# Altium schematic symbol library kmilo17pet-TI_MSP430.SchLib: 1463 symbols (part 6 of 130)
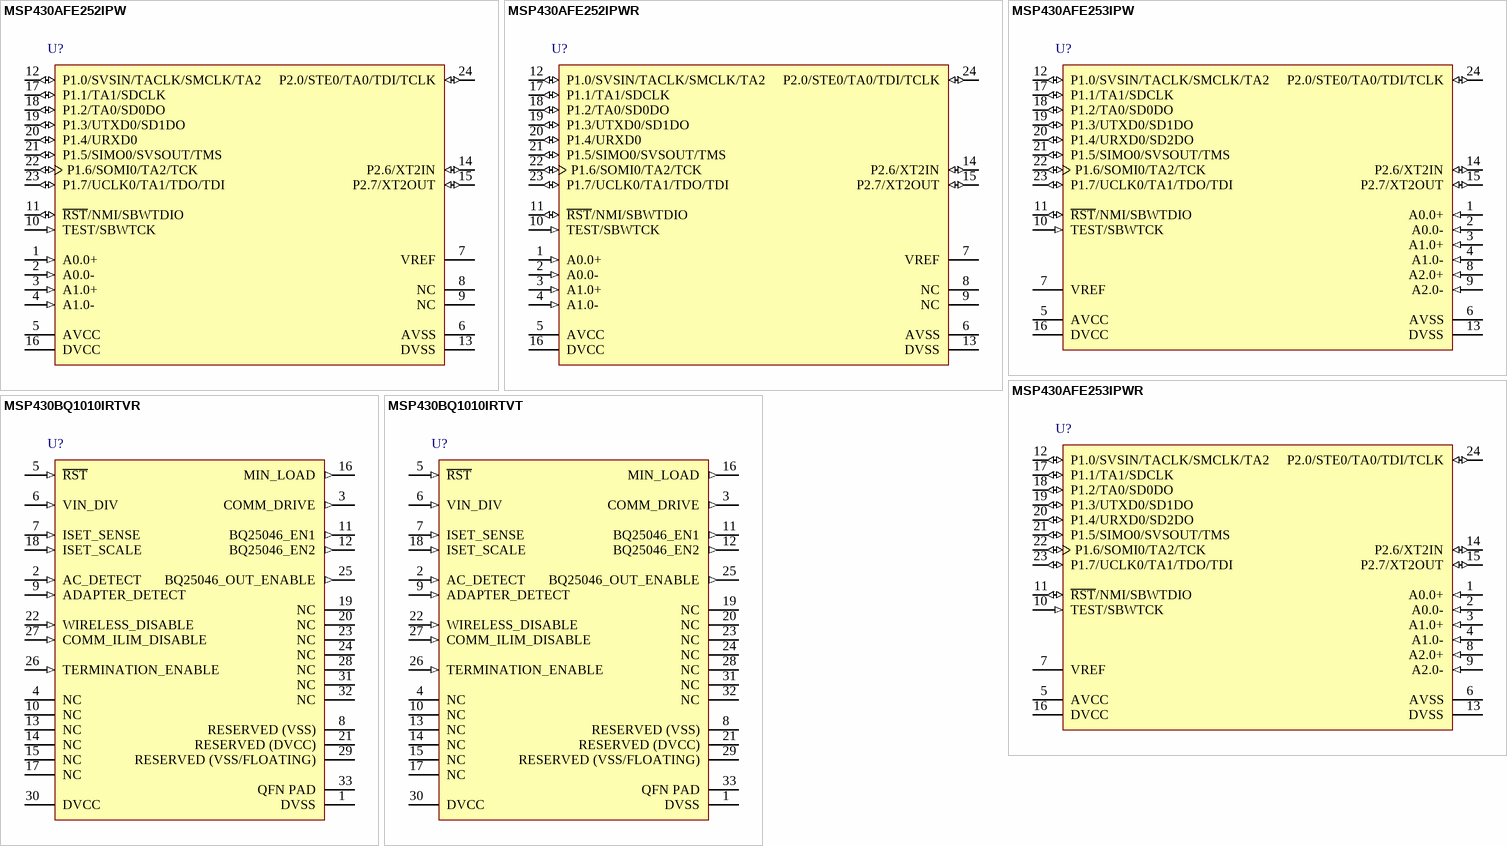
[diagram p339: symbols MSP430AFE252IPW to MSP430BQ1010IRTVT]

## MSP430AFE252IPW
designator U?
12 MHz Mixed Signal Microcontroller with 16 KB Flash, 512 B SRAM and 11 GPIOs, 24-pin SOP (PW), Green (RoHS & no Sb/Br); Manufacturer: Texas Instruments; PartNumber: MSP430AFE252IPW; ADC: 24-bit Sigma Delta; ADC Channels: 2; Brown Out Reset: Yes; Flash(KB): 16; Frequency(MHz): 12; GPIO: 11; Multiplier: 16x16; SRAM(B): 512; SubFamily: 2 Series; Timers - 16-bit: 1; DatasheetVersion: SLAS701A; PackageVersion: 4040064-6/G; PackageReference: PW24; PackageDescription: 24-Pin Plastic Small Outline, Body 7.8 x 4.4 mm, Pitch 0.65 mm; Supplier 1: Digi-Key; Supplier Part Number 1: MSP430AFE252IPW-ND; Supplier 2: Newark; Supplier Part Number 2: 40T4867; Supplier 3: Mouser; Supplier Part Number 3: 595-MSP430AFE252IPW; Eco-Plan: Green (RoHS & no Sb/Br); SVS: Yes; Temp Sensor: Yes; USART: 1; Watchdog: Yes; Mounting Technology: Surface Mount; Code_JEDEC: MO-153; ComponentLink1Description: Manufacturer URL; ComponentLink1URL: http://www.ti.com/; ComponentLink2Description: Datasheet; ComponentLink2URL: http://www.ti.com/general/docs/lit/getliterature.tsp?genericPartNumber=MSP430AFE252&fileType=pdf; ComponentLink3Description: Package Specification; ComponentLink3URL: http://www.ti.com/litv/pdf/mpds363
footprint TI-PW24_N (SOP, 24-Leads, Body 7.8x4.4mm, Pitch 0.65mm, IPC Medium Density)
pins: 1 A0.0+ (in) "SD24_A positive analog input A0.0", 2 A0.0- (in) "SD24_A negative analog input A0.0", 3 A1.0+ (in) "SD24_A positive analog input A1.0", 4 A1.0- (in) "SD24_A negative analog input A1.0", 5 AVCC (power) "Analog supply voltage, positive terminal. Must not power up prior to DVCC", 6 AVSS (power) "Analog supply voltage, negative terminal", 7 VREF "Input for an external reference voltage/ output for internal reference voltage (can be used as mid-voltage)", 8 NC, 9 NC, 10 TEST/SBWTCK (in), 11 ~{RST}/NMI/SBWTDIO (io), 12 P1.0/SVSIN/TACLK/SMCLK/TA2 (io), 13 DVSS (power) "Digital supply voltage, negative terminal", 14 P2.6/XT2IN (io), 15 P2.7/XT2OUT (io), 16 DVCC (power) "Digital supply voltage, positive terminal.", 17 P1.1/TA1/SDCLK (io), 18 P1.2/TA0/SD0DO (io), 19 P1.3/UTXD0/SD1DO (io), 20 P1.4/URXD0 (io), 21 P1.5/SIMO0/SVSOUT/TMS (io), 22 P1.6/SOMI0/TA2/TCK (io), 23 P1.7/UCLK0/TA1/TDO/TDI (io), 24 P2.0/STE0/TA0/TDI/TCLK (io)

## MSP430AFE252IPWR
designator U?
12 MHz Mixed Signal Microcontroller with 16 KB Flash, 512 B SRAM and 11 GPIOs, 24-pin SOP (PW), Green (RoHS & no Sb/Br); Manufacturer: Texas Instruments; PartNumber: MSP430AFE252IPWR; ADC: 24-bit Sigma Delta; ADC Channels: 2; Brown Out Reset: Yes; Flash(KB): 16; Frequency(MHz): 12; GPIO: 11; Multiplier: 16x16; SRAM(B): 512; SubFamily: 2 Series; Timers - 16-bit: 1; DatasheetVersion: SLAS701A; PackageVersion: 4040064-6/G; PackageReference: PW24; PackageDescription: 24-Pin Plastic Small Outline, Body 7.8 x 4.4 mm, Pitch 0.65 mm; Supplier 1: Digi-Key; Supplier Part Number 1: MSP430AFE252IPWR-ND; Supplier 2: Mouser; Supplier Part Number 2: 595-MSP430AFE252IPWR; Eco-Plan: Green (RoHS & no Sb/Br); SVS: Yes; Temp Sensor: Yes; USART: 1; Watchdog: Yes; Mounting Technology: Surface Mount; Code_JEDEC: MO-153; ComponentLink1Description: Manufacturer URL; ComponentLink1URL: http://www.ti.com/; ComponentLink2Description: Datasheet; ComponentLink2URL: http://www.ti.com/general/docs/lit/getliterature.tsp?genericPartNumber=MSP430AFE252&fileType=pdf; ComponentLink3Description: Package Specification; ComponentLink3URL: http://www.ti.com/litv/pdf/mpds363
footprint TI-PW24_N (SOP, 24-Leads, Body 7.8x4.4mm, Pitch 0.65mm, IPC Medium Density)
pins: 1 A0.0+ (in) "SD24_A positive analog input A0.0", 2 A0.0- (in) "SD24_A negative analog input A0.0", 3 A1.0+ (in) "SD24_A positive analog input A1.0", 4 A1.0- (in) "SD24_A negative analog input A1.0", 5 AVCC (power) "Analog supply voltage, positive terminal. Must not power up prior to DVCC", 6 AVSS (power) "Analog supply voltage, negative terminal", 7 VREF "Input for an external reference voltage/ output for internal reference voltage (can be used as mid-voltage)", 8 NC, 9 NC, 10 TEST/SBWTCK (in), 11 ~{RST}/NMI/SBWTDIO (io), 12 P1.0/SVSIN/TACLK/SMCLK/TA2 (io), 13 DVSS (power) "Digital supply voltage, negative terminal", 14 P2.6/XT2IN (io), 15 P2.7/XT2OUT (io), 16 DVCC (power) "Digital supply voltage, positive terminal.", 17 P1.1/TA1/SDCLK (io), 18 P1.2/TA0/SD0DO (io), 19 P1.3/UTXD0/SD1DO (io), 20 P1.4/URXD0 (io), 21 P1.5/SIMO0/SVSOUT/TMS (io), 22 P1.6/SOMI0/TA2/TCK (io), 23 P1.7/UCLK0/TA1/TDO/TDI (io), 24 P2.0/STE0/TA0/TDI/TCLK (io)

## MSP430AFE253IPW
designator U?
12 MHz Mixed Signal Microcontroller with 16 KB Flash, 512 B SRAM and 11 GPIOs, 24-pin SOP (PW), Green (RoHS & no Sb/Br); Manufacturer: Texas Instruments; PartNumber: MSP430AFE253IPW; ADC: 24-bit Sigma Delta; ADC Channels: 3; Brown Out Reset: Yes; Flash(KB): 16; Frequency(MHz): 12; GPIO: 11; Multiplier: 16x16; SRAM(B): 512; SubFamily: 2 Series; Timers - 16-bit: 1; DatasheetVersion: SLAS701A; PackageVersion: 4040064-6/G; PackageReference: PW24; PackageDescription: 24-Pin Plastic Small Outline, Body 7.8 x 4.4 mm, Pitch 0.65 mm; Supplier 1: Digi-Key; Supplier Part Number 1: 296-28395-ND; Supplier 2: Farnell; Supplier Part Number 2: 1972313; Supplier 3: Newark; Supplier Part Number 3: 45T9754; Supplier 4: Mouser; Supplier Part Number 4: 595-MSP430AFE253IPW; Eco-Plan: Green (RoHS & no Sb/Br); SVS: Yes; Temp Sensor: Yes; USART: 1; Watchdog: Yes; Mounting Technology: Surface Mount; Code_JEDEC: MO-153; ComponentLink1Description: Manufacturer URL; ComponentLink1URL: http://www.ti.com/; ComponentLink2Description: Datasheet; ComponentLink2URL: http://www.ti.com/general/docs/lit/getliterature.tsp?genericPartNumber=MSP430AFE253&fileType=pdf; ComponentLink3Description: Package Specification; ComponentLink3URL: http://www.ti.com/litv/pdf/mpds363
footprint TI-PW24_N (SOP, 24-Leads, Body 7.8x4.4mm, Pitch 0.65mm, IPC Medium Density)
pins: 1 A0.0+ (in) "SD24_A positive analog input A0.0", 2 A0.0- (in) "SD24_A negative analog input A0.0", 3 A1.0+ (in) "SD24_A positive analog input A1.0 (not available on MSP430AFE2x1)", 4 A1.0- (in) "SD24_A negative analog input A1.0 (not available on MSP430AFE2x1)", 5 AVCC (power) "Analog supply voltage, positive terminal. Must not power up prior to DVCC.", 6 AVSS (power) "Analog supply voltage, negative terminal", 7 VREF "Input for an external reference voltage/ output for internal reference voltage (can be used as mid-voltage)", 8 A2.0+ (in) "SD24_A positive analog input A2.0 (not available on MSP430AFE2x2 and MSP430AFE2x1)", 9 A2.0- (in) "SD24_A negative analog input A2.0 (not available on MSP430AFE2x2 and MSP430AFE2x1)", 10 TEST/SBWTCK (in) "Digital supply voltage, negative terminal", 11 ~{RST}/NMI/SBWTDIO (io), 12 P1.0/SVSIN/TACLK/SMCLK/TA2 (io), 13 DVSS (power) "Digital supply voltage, negative terminal", 14 P2.6/XT2IN (io), 15 P2.7/XT2OUT (io), 16 DVCC (power) "Digital supply voltage, positive terminal.", 17 P1.1/TA1/SDCLK (io), 18 P1.2/TA0/SD0DO (io), 19 P1.3/UTXD0/SD1DO (io), 20 P1.4/URXD0/SD2DO (io), 21 P1.5/SIMO0/SVSOUT/TMS (io), 22 P1.6/SOMI0/TA2/TCK (io), 23 P1.7/UCLK0/TA1/TDO/TDI (io), 24 P2.0/STE0/TA0/TDI/TCLK (io) "Input for an external reference voltage/ output for internal reference voltage (can be used as mid-voltage)"

## MSP430AFE253IPWR
designator U?
12 MHz Mixed Signal Microcontroller with 16 KB Flash, 512 B SRAM and 11 GPIOs, 24-pin SOP (PW), Green (RoHS & no Sb/Br); Manufacturer: Texas Instruments; PartNumber: MSP430AFE253IPWR; ADC: 24-bit Sigma Delta; ADC Channels: 3; Brown Out Reset: Yes; Flash(KB): 16; Frequency(MHz): 12; GPIO: 11; Multiplier: 16x16; SRAM(B): 512; SubFamily: 2 Series; Timers - 16-bit: 1; DatasheetVersion: SLAS701A; PackageVersion: 4040064-6/G; PackageReference: PW24; PackageDescription: 24-Pin Plastic Small Outline, Body 7.8 x 4.4 mm, Pitch 0.65 mm; Supplier 1: Digi-Key; Supplier Part Number 1: MSP430AFE253IPWR-ND; Supplier 2: Mouser; Supplier Part Number 2: 595-MSP430AFE253IPWR; Eco-Plan: Green (RoHS & no Sb/Br); SVS: Yes; Temp Sensor: Yes; USART: 1; Watchdog: Yes; Mounting Technology: Surface Mount; Code_JEDEC: MO-153; ComponentLink1Description: Manufacturer URL; ComponentLink1URL: http://www.ti.com/; ComponentLink2Description: Datasheet; ComponentLink2URL: http://www.ti.com/general/docs/lit/getliterature.tsp?genericPartNumber=MSP430AFE253&fileType=pdf; ComponentLink3Description: Package Specification; ComponentLink3URL: http://www.ti.com/litv/pdf/mpds363
footprint TI-PW24_N (SOP, 24-Leads, Body 7.8x4.4mm, Pitch 0.65mm, IPC Medium Density)
pins: 1 A0.0+ (in) "SD24_A positive analog input A0.0", 2 A0.0- (in) "SD24_A negative analog input A0.0", 3 A1.0+ (in) "SD24_A positive analog input A1.0 (not available on MSP430AFE2x1)", 4 A1.0- (in) "SD24_A negative analog input A1.0 (not available on MSP430AFE2x1)", 5 AVCC (power) "Analog supply voltage, positive terminal. Must not power up prior to DVCC.", 6 AVSS (power) "Analog supply voltage, negative terminal", 7 VREF "Input for an external reference voltage/ output for internal reference voltage (can be used as mid-voltage)", 8 A2.0+ (in) "SD24_A positive analog input A2.0 (not available on MSP430AFE2x2 and MSP430AFE2x1)", 9 A2.0- (in) "SD24_A negative analog input A2.0 (not available on MSP430AFE2x2 and MSP430AFE2x1)", 10 TEST/SBWTCK (in) "Digital supply voltage, negative terminal", 11 ~{RST}/NMI/SBWTDIO (io), 12 P1.0/SVSIN/TACLK/SMCLK/TA2 (io), 13 DVSS (power) "Digital supply voltage, negative terminal", 14 P2.6/XT2IN (io), 15 P2.7/XT2OUT (io), 16 DVCC (power) "Digital supply voltage, positive terminal.", 17 P1.1/TA1/SDCLK (io), 18 P1.2/TA0/SD0DO (io), 19 P1.3/UTXD0/SD1DO (io), 20 P1.4/URXD0/SD2DO (io), 21 P1.5/SIMO0/SVSOUT/TMS (io), 22 P1.6/SOMI0/TA2/TCK (io), 23 P1.7/UCLK0/TA1/TDO/TDI (io), 24 P2.0/STE0/TA0/TDI/TCLK (io) "Input for an external reference voltage/ output for internal reference voltage (can be used as mid-voltage)"

## MSP430BQ1010IRTVR
designator U?
Wireless Receiver-Side Communication and Power Monitoring IC for Wireless Power, 32-pin QFN (RTV), Green (RoHS & no Sb/Br); Manufacturer: Texas Instruments; PartNumber: MSP430BQ1010IRTVR; SubFamily: Fixed Function; DatasheetVersion: SLAS696; PackageReference: RTV32-3450X3450TP; PackageDescription: 32-Pin Plastic Flat Pack, Body 5.00 x 5.00 mm, Pitch 0.50 mm; Supplier 1: Digi-Key; Supplier Part Number 1: 296-28106-2-ND; Supplier 2: Digi-Key; Supplier Part Number 2: 296-28106-1-ND; Supplier 3: Digi-Key; Supplier Part Number 3: 296-28106-6-ND; Supplier 4: Farnell; Supplier Part Number 4: 1972386; Supplier 5: Newark; Supplier Part Number 5: 24T4624; Supplier 6: Mouser; Supplier Part Number 6: 595-SP430BQ1010IRTVR; Eco-Plan: Green (RoHS & no Sb/Br); Mounting Technology: Surface Mount; Code_JEDEC: MO-220; ComponentLink1Description: Manufacturer URL; ComponentLink1URL: http://www.ti.com/; ComponentLink2Description: Datasheet; ComponentLink2URL: http://www.ti.com/general/docs/lit/getliterature.tsp?genericPartNumber=MSP430BQ1010&fileType=pdf; ComponentLink3Description: Package Specification; ComponentLink3URL: http://www.ti.com/litv/pdf/mpqf166b
footprint TI-RTV32-3450X3450TP_N (QFN, 32-Leads, Body 5x5mm, Pitch 0.5mm, Thermal Pad 3.45x3.45mm, IPC Medium Density)
pins: 1 DVSS (power) "Supply voltage (GND connection)", 2 AC_DETECT (in) "Analog input voltage that is used to detect the presence of wireless power transmission. AC_DETECT is the voltage at the AC2 switching node in the EVM schematic [see bq25046EVM-687 User’s Guide (SLVU420)]. If the wireless (See Datasheet)", 3 COMM_DRIVE (out) "Communication control. Communicates with the wireless transmitter by varying the reflected impedance.", 4 NC "Connect to VSS", 5 ~{RST} (in) "Device reset", 6 VIN_DIV (in) "Analog input voltage that represents 6:1 divided rectifier output voltage. See bq25046EVM-687 User’s Guide (SLVU420) for more details on the 6:1 divider.", 7 ISET_SENSE (in) "Analog input voltage for overcurrent detection. When the ISET_SENSE voltage exceeds the overcurrent threshold, the MSP430BQ1010 disables the BQ25046 output and sends an end power transfer packet, message 0x05.", 8 RESERVED (VSS) "Reserved. Connect to VSS.", 9 ADAPTER_DETECT (in) "External adapter voltage measurement. External adapter refers to another host charging the battery. Use a 6:1 divider from the adapter voltage. When the ADAPTER_DETECT voltage exceeds the VADAPTER-DETECT threshold, the (See Datasheet)", 10 NC "Connect to VSS", 11 BQ25046_EN1 (out) "BQ25046 current limit configuration pins. See the EN1 and EN2 Input table in the BQ25046 datasheet (SLUSA83).", 12 BQ25046_EN2 (out) "BQ25046 current limit configuration pins. See the EN1 and EN2 Input table in the BQ25046 datasheet (SLUSA83).", 13 NC "Connect to VSS", 14 NC "Connect to VSS", 15 NC "Connect to VSS", 16 MIN_LOAD (out) "Provides additional load during minimum-load conditions to improve the stability of the wireless control loop. When a minimum-load condition is detected (that is, when the BQ25046 output current is less than (See Datasheet)", 17 NC "Connect to VSS", 18 ISET_SCALE (in) "Analog input voltage that represents BQ25046 output current. Connect a 470-ohm resistor between this pin and ground. This pin can be tied directly to the ISET pin on the BQ25046 to achieve a output current limit of (See Datasheet)", 19 NC "Connect to VSS", 20 NC "Connect to VSS", 21 RESERVED (DVCC) "Reserved. Connect to DVCC.", 22 WIRELESS_DISABLE (in) "Connecting this pin to DVCC disables wireless power transfer. When WIRELESS_DISABLE is pulled to DVCC, the MSP430BQ1010 disables the BQ25046 output and sends an end power transfer packet, message 0x03.", 23 NC "Connect to VSS", 24 NC "Connect to VSS", 25 BQ25046_OUT_ENABLE (out) "Enables the wireless charging path. The wireless charging output is combined by a logical OR with the ADAPTER_DETECT function. During the MSP430BQ1010 power-up routine, this pin is set high to enable the BQ25046 output, only (See Datasheet)", 26 TERMINATION_ENABLE (in) "User configurable pin that enables the power-supply termination feature on the MSP430BQ1010. Pulling this pin high enables the termination detect function on MSP430BQ1010 which sends an end power transfer packet, message (See Datasheet)", 27 COMM_ILIM_DISABLE (in) "User configurable pin that is used to enable/disable BQ25046 current limit modes during communication. With COMM_ILIM_DISABLE connected to DVSS, current limit during communication is enabled, and with COMM_ILIM_DISABLE (See Datasheet)", 28 NC "Connect to VSS", 29 RESERVED (VSS/FLOATING) "Reserved. Can be either connected to VSS or left floating", 30 DVCC (power) "Supply voltage (VCC)", 31 NC "Connect to VSS", 32 NC "Connect to VSS", 33 QFN PAD (power) "Connection to DVSS is recommended."

## MSP430BQ1010IRTVT
designator U?
Wireless Receiver-Side Communication and Power Monitoring IC for Wireless Power, 32-pin QFN (RTV), Green (RoHS & no Sb/Br); Manufacturer: Texas Instruments; PartNumber: MSP430BQ1010IRTVT; SubFamily: Fixed Function; DatasheetVersion: SLAS696; PackageReference: RTV32-3450X3450TP; PackageDescription: 32-Pin Plastic Flat Pack, Body 5.00 x 5.00 mm, Pitch 0.50 mm; Supplier 1: Digi-Key; Supplier Part Number 1: 296-32161-2-ND; Supplier 2: Digi-Key; Supplier Part Number 2: 296-32161-1-ND; Supplier 3: Digi-Key; Supplier Part Number 3: 296-32161-6-ND; Supplier 4: Farnell; Supplier Part Number 4: 1864833; Supplier 5: Newark; Supplier Part Number 5: 13T4429; Supplier 6: Mouser; Supplier Part Number 6: 595-SP430BQ1010IRTVT; Eco-Plan: Green (RoHS & no Sb/Br); Mounting Technology: Surface Mount; Code_JEDEC: MO-220; ComponentLink1Description: Manufacturer URL; ComponentLink1URL: http://www.ti.com/; ComponentLink2Description: Datasheet; ComponentLink2URL: http://www.ti.com/general/docs/lit/getliterature.tsp?genericPartNumber=MSP430BQ1010&fileType=pdf; ComponentLink3Description: Package Specification; ComponentLink3URL: http://www.ti.com/litv/pdf/mpqf166b
footprint TI-RTV32-3450X3450TP_N (QFN, 32-Leads, Body 5x5mm, Pitch 0.5mm, Thermal Pad 3.45x3.45mm, IPC Medium Density)
pins: 1 DVSS (power) "Supply voltage (GND connection)", 2 AC_DETECT (in) "Analog input voltage that is used to detect the presence of wireless power transmission. AC_DETECT is the voltage at the AC2 switching node in the EVM schematic [see bq25046EVM-687 User’s Guide (SLVU420)]. If the wireless (See Datasheet)", 3 COMM_DRIVE (out) "Communication control. Communicates with the wireless transmitter by varying the reflected impedance.", 4 NC "Connect to VSS", 5 ~{RST} (in) "Device reset", 6 VIN_DIV (in) "Analog input voltage that represents 6:1 divided rectifier output voltage. See bq25046EVM-687 User’s Guide (SLVU420) for more details on the 6:1 divider.", 7 ISET_SENSE (in) "Analog input voltage for overcurrent detection. When the ISET_SENSE voltage exceeds the overcurrent threshold, the MSP430BQ1010 disables the BQ25046 output and sends an end power transfer packet, message 0x05.", 8 RESERVED (VSS) "Reserved. Connect to VSS.", 9 ADAPTER_DETECT (in) "External adapter voltage measurement. External adapter refers to another host charging the battery. Use a 6:1 divider from the adapter voltage. When the ADAPTER_DETECT voltage exceeds the VADAPTER-DETECT threshold, the (See Datasheet)", 10 NC "Connect to VSS", 11 BQ25046_EN1 (out) "BQ25046 current limit configuration pins. See the EN1 and EN2 Input table in the BQ25046 datasheet (SLUSA83).", 12 BQ25046_EN2 (out) "BQ25046 current limit configuration pins. See the EN1 and EN2 Input table in the BQ25046 datasheet (SLUSA83).", 13 NC "Connect to VSS", 14 NC "Connect to VSS", 15 NC "Connect to VSS", 16 MIN_LOAD (out) "Provides additional load during minimum-load conditions to improve the stability of the wireless control loop. When a minimum-load condition is detected (that is, when the BQ25046 output current is less than (See Datasheet)", 17 NC "Connect to VSS", 18 ISET_SCALE (in) "Analog input voltage that represents BQ25046 output current. Connect a 470-ohm resistor between this pin and ground. This pin can be tied directly to the ISET pin on the BQ25046 to achieve a output current limit of (See Datasheet)", 19 NC "Connect to VSS", 20 NC "Connect to VSS", 21 RESERVED (DVCC) "Reserved. Connect to DVCC.", 22 WIRELESS_DISABLE (in) "Connecting this pin to DVCC disables wireless power transfer. When WIRELESS_DISABLE is pulled to DVCC, the MSP430BQ1010 disables the BQ25046 output and sends an end power transfer packet, message 0x03.", 23 NC "Connect to VSS", 24 NC "Connect to VSS", 25 BQ25046_OUT_ENABLE (out) "Enables the wireless charging path. The wireless charging output is combined by a logical OR with the ADAPTER_DETECT function. During the MSP430BQ1010 power-up routine, this pin is set high to enable the BQ25046 output, only (See Datasheet)", 26 TERMINATION_ENABLE (in) "User configurable pin that enables the power-supply termination feature on the MSP430BQ1010. Pulling this pin high enables the termination detect function on MSP430BQ1010 which sends an end power transfer packet, message (See Datasheet)", 27 COMM_ILIM_DISABLE (in) "User configurable pin that is used to enable/disable BQ25046 current limit modes during communication. With COMM_ILIM_DISABLE connected to DVSS, current limit during communication is enabled, and with COMM_ILIM_DISABLE (See Datasheet)", 28 NC "Connect to VSS", 29 RESERVED (VSS/FLOATING) "Reserved. Can be either connected to VSS or left floating", 30 DVCC (power) "Supply voltage (VCC)", 31 NC "Connect to VSS", 32 NC "Connect to VSS", 33 QFN PAD (power) "Connection to DVSS is recommended."

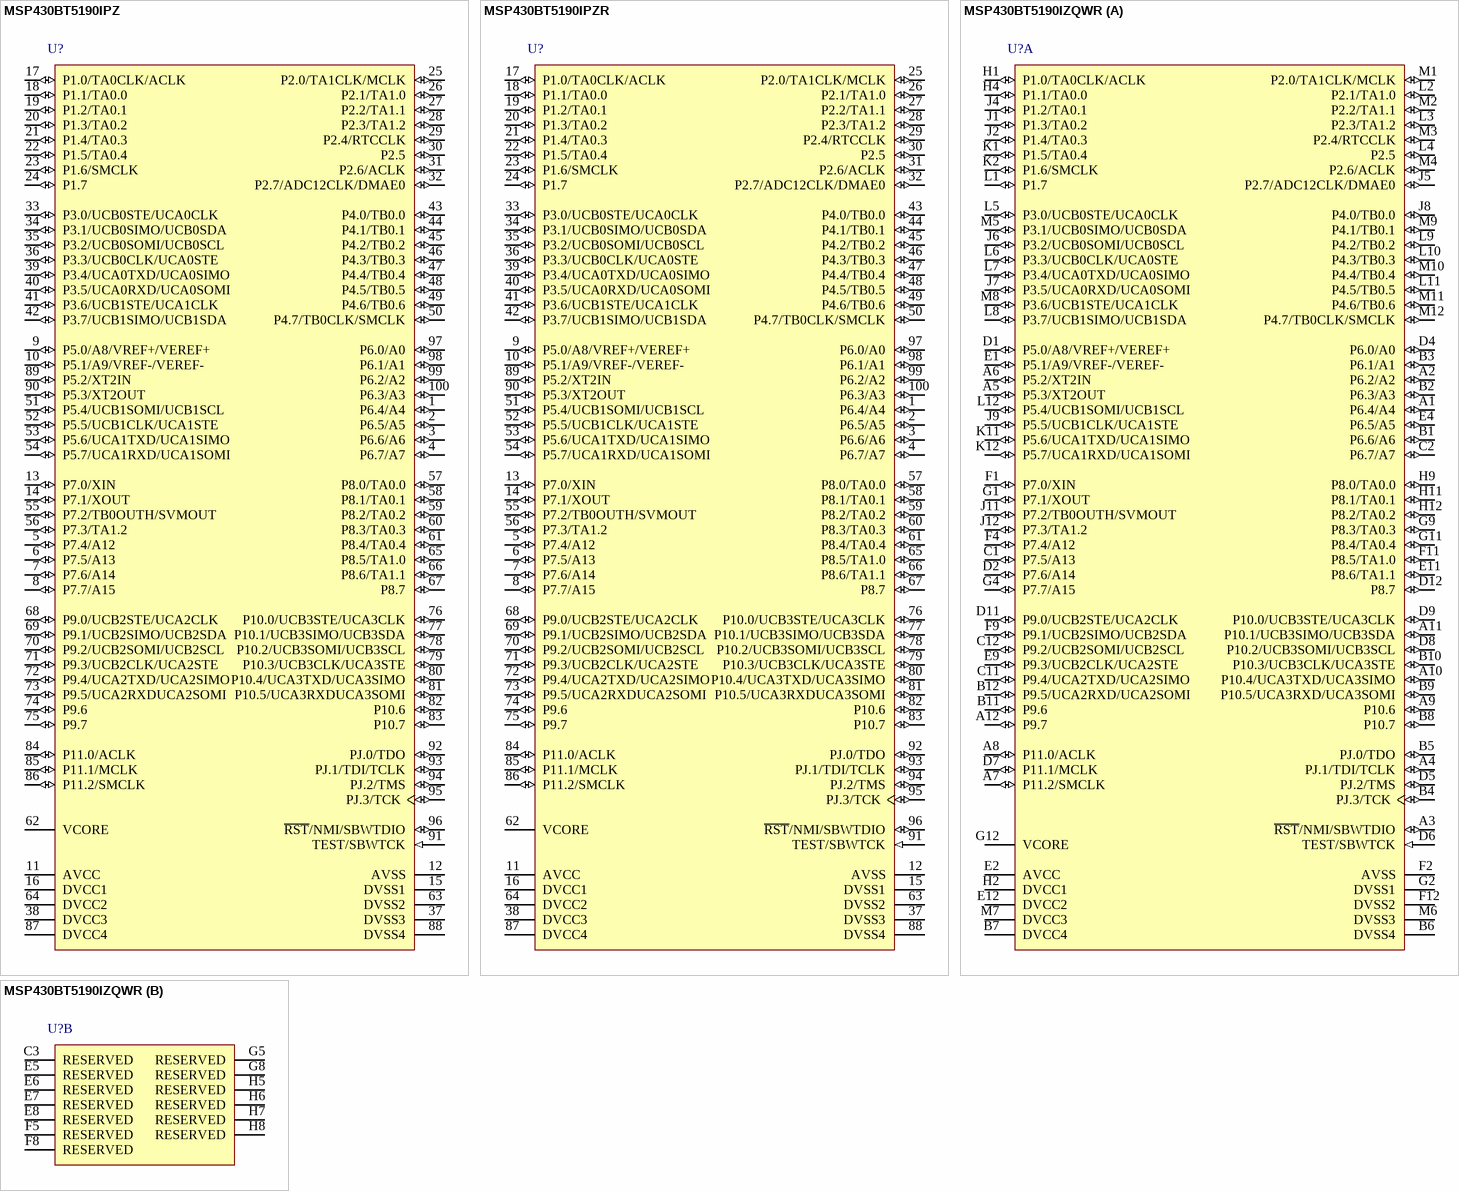
[diagram p12: symbols MSP430BT5190IPZ to MSP430BT5190IZQWR]